# EAGLE library part LC54C (library LC54C)
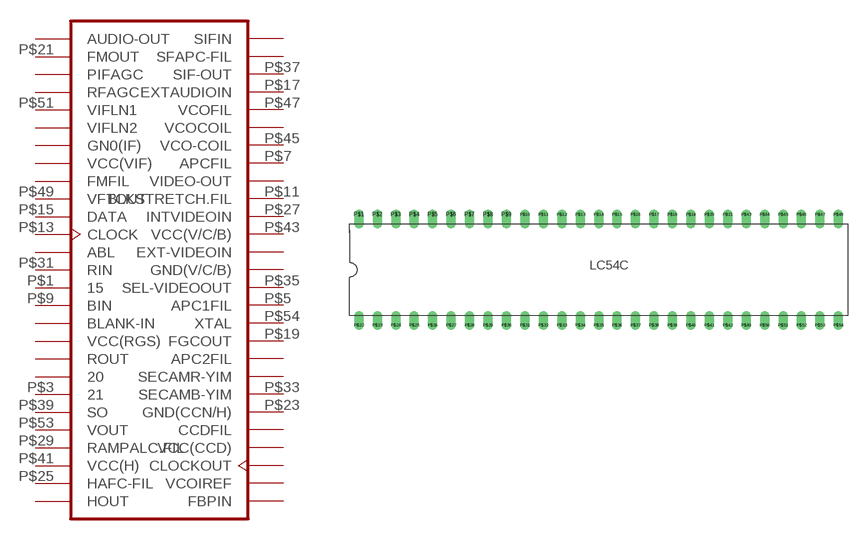
[diagram p0: symbol with the pads of LC54C; footprint LC54C]

Designator prefix -

## LC54CL  [LC54C]
P$1  15  in
P$3  21
P$5  APC1FIL
P$7  APCFIL
P$9  BIN
P$11  BLKSTRETCH.FIL
P$13  CLOCK
P$15  DATA  in
P$17  EXTAUDIOIN  oc
P$19  FGCOUT
P$21  FMOUT  in
P$23  GND(CCN/H)
P$25  HAFC-FIL
P$27  INTVIDEOIN
P$29  RAMPALC.FIL
P$31  RIN  in
P$33  SECAMB-YIM
P$35  SEL-VIDEOOUT
P$37  SIF-OUT  oc
P$39  SO
P$41  VCC(H)
P$43  VCC(V/C/B)
P$45  VCO-COIL
P$47  VCOFIL
P$49  VFTOUT  in
P$51  VIFLN1  in
P$53  VOUT
P$54  XTAL

## Footprint LC54C (pad centres in mm)
drill 0.813 offset: P$1 -25.4,7.62; P$2 -22.86,7.62; P$3 -20.32,7.62; P$4 -17.78,7.62; P$5 -15.24,7.62; P$6 -12.7,7.62; P$7 -10.16,7.62; P$8 -7.62,7.62; P$9 -5.08,7.62; P$10 -2.54,7.62; P$11 0,7.62; P$12 2.54,7.62; P$13 5.08,7.62; P$14 7.62,7.62; P$15 10.16,7.62; P$16 12.7,7.62; P$17 15.24,7.62; P$18 17.78,7.62; P$19 20.32,7.62; P$20 22.86,7.62; P$21 25.4,7.62; P$22 -25.4,-7.62; P$23 -22.86,-7.62; P$24 -20.32,-7.62; P$25 -17.78,-7.62; P$26 -15.24,-7.62; P$27 -12.7,-7.62; P$28 -10.16,-7.62; P$29 -7.62,-7.62; P$30 -5.08,-7.62; P$31 -2.54,-7.62; P$32 0,-7.62; P$33 2.54,-7.62; P$34 5.08,-7.62; P$35 7.62,-7.62; P$36 10.16,-7.62; P$37 12.7,-7.62; P$38 15.24,-7.62; P$39 17.78,-7.62; P$40 20.32,-7.62; P$41 22.86,-7.62; P$42 25.4,-7.62; P$43 27.94,7.62; P$44 30.48,7.62; P$45 33.02,7.62; P$46 35.56,7.62; P$47 38.1,7.62; P$48 40.64,7.62; P$49 27.94,-7.62; P$50 30.48,-7.62; P$51 33.02,-7.62; P$52 35.56,-7.62; P$53 38.1,-7.62; P$54 40.64,-7.62